# Altium footprint library LPSON_DIODE.PcbLib: 28 footprints (part 2 of 2)
Each footprint in its own frame and in the unit in brackets; x right, y up, seen from the top. Pads: shape width x height; smd on the part's side, far side on the other; paste and mask are expansions set on the pad; w line width, h text height; cw(c..) or ccw(c..) is an arc to the next point about the centre after c.
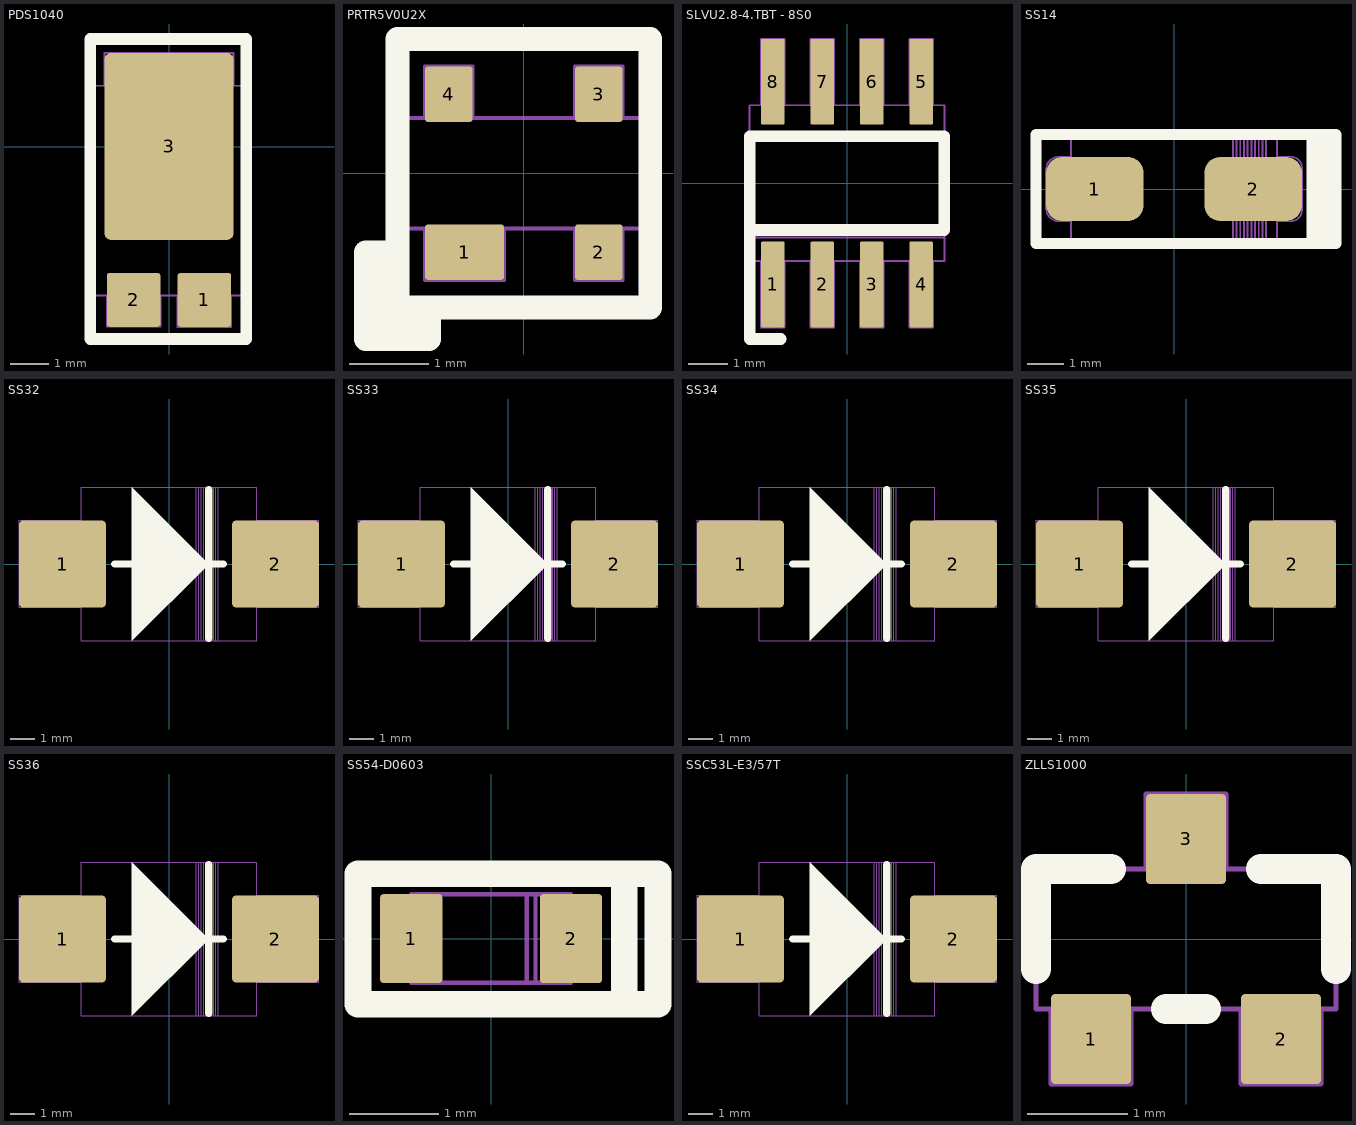
[diagram p1: the footprints below, top view; thin cyan lines are the x and y axes]

## PDS1040 [mm] "DIOD 10A SCHOTTKY BARRIER RECTIFIER"
height 1.15
pads (3):
  rrect10% 1.39x1.4 smd: 1(0.92,-3.982) 2(-0.92,-3.982)
  rrect10% 3.36x4.86 smd mask+0.1: 3(0,0.006)
Top Overlay:
  lines w0.3: -2.043,-5 -2.043,2.8 2.007,2.8 2.007,-5 -2.043,-5
Mechanical 1:
  lines w0.05: -1.68,1.585 -1.68,2.436 1.68,2.436 1.68,1.585 ; -1.615,-3.865 -1.615,-4.682 -0.225,-4.682 -0.225,-3.865 ; 0.225,-3.865 0.225,-4.688 1.615,-4.688 1.615,-3.865 ; -2.025,-3.865 2.025,-3.865 2.025,1.585 -2.025,1.585 -2.025,-3.865
  text "K" at -0.1,-2 h0.5
  text "A2" at -1.3,-4.5 h0.5
  text "A1" at 0.6,-4.5 h0.5
  text "D?" at 0,0 h1

## PRTR5V0U2X [mm] "SOT143B Ultra low capacitance double rail-to-rail ESD protection diode"
height 1.1
pads (4):
  rrect10% 1x0.7 smd mask+0.1: 1(-0.75,-1)
  rrect10% 0.6x0.7 smd mask+0.1: 2(0.95,-1) 3(0.95,1) 4(-0.95,1)
Top Overlay:
  lines w0.3: -1.2,-1.9 -1.8,-1.9 -1.8,-1 -1.6,-1 -2,-1 -2,-2.1 -1.2,-2.1 -1.2,-1.7 ; -1.6,-1.7 -1.6,1.7 1.6,1.7 1.6,-1.7 -1.6,-1.7
Mechanical 1:
  lines w0.05: -1.5,-0.7 1.5,-0.7 1.5,0.7 -1.5,0.7 -1.5,-0.7 ; -1.25,-1.35 -1.25,-0.7 -0.25,-0.7 -0.25,-1.35 -1.25,-1.35 ; -1.25,0.7 -1.25,1.35 -0.65,1.35 -0.65,0.7 -1.25,0.7 ; 0.65,-1.35 1.25,-1.35 1.25,-0.7 0.65,-0.7 0.65,-1.35 ; 0.65,0.7 1.25,0.7 1.25,1.35 0.65,1.35 0.65,0.7
  text "GND" at -1.5,-0.7 h0.5
  text "IO1" at 0.36,-0.66 h0.5
  text "IO2" at 0.25,0.15 h0.5
  text "VCC" at -1.45,0.14 h0.5

## SLVU2.8-4.TBT - 8S0 [mm] "TVS DIODE 2.8V 15V 8SO"
height 1.75
pads (8):
  rrect10% 0.6x2.2 smd mask+0.1: 1(-1.905,-2.6) 2(-0.635,-2.6) 3(0.635,-2.6) 4(1.905,-2.6) 5(1.905,2.6) 6(0.635,2.6) 7(-0.635,2.6) 8(-1.905,2.6)
Top Overlay:
  lines w0.3: -1.7,-4 -2.5,-4 -2.5,-1.2 ; -2.5,-1.2 -2.5,1.2 2.5,1.2 2.5,-1.2 -2.5,-1.2
Mechanical 2:
  lines w0.05: -2.5,-1.4 2.5,-1.4 ; -2.205,-2 -2.205,-3.7 -1.605,-3.7 -1.605,-2 ; -2.205,2 -2.205,3.7 -1.605,3.7 -1.605,2 ; -0.935,-2 -0.935,-3.7 -0.335,-3.7 -0.335,-2 ; -0.935,2 -0.935,3.7 -0.335,3.7 -0.335,2 ; 0.335,-2 0.335,-3.7 0.935,-3.7 0.935,-2 ; 0.335,2 0.335,3.7 0.935,3.7 0.935,2 ; 1.605,-2 1.605,-3.7 2.205,-3.7 2.205,-2 ; 1.605,2 1.605,3.7 2.205,3.7 2.205,2 ; -2.5,-2 2.5,-2 ; -2.5,-2 2.5,-2 ; -2.5,-2 -2.5,2 ; -2.5,-2 -2.5,2 ; -2.5,2 2.5,2 ; -2.5,2 2.5,2 ; 2.5,-2 2.5,2 ; 2.5,-2 2.5,2
  text "5" at 1.8,0.8 h0.5
  text "4" at 1.8,-1.2 h0.5
  text "8" at -2,0.8 h0.5
  text "1" at -2,-1.2 h0.5
3D body "SW3dPS-SO8-HCPL.STEP": height 3.23, standoff -0.5, extent -2.6,-3.003 2.4,3.003

## SS14 [mm] "Diode SMD"
height 2.7
pads (2):
  rrect50% 2.65x1.75 smd: 1(-2.15,0) 2(2.15,0)
Top Overlay:
  lines w0.3: 3.75,-1.475 3.75,1.475 ; 3.9,-1.475 3.9,1.475 ; 4.004,-1.2 4.004,1.2 ; 4.2,-1.475 4.2,1.475 ; -3.75,-1.475 -3.75,1.475 4.4,1.475 4.4,-1.475 -3.75,-1.475
Mechanical 1:
  lines w0.05: -2.8,-0.875 -3.125,-0.875 cw(c-3.125,-0.525) -3.475,-0.525 -3.475,0.525 cw(c-3.125,0.525) -3.125,0.875 -2.8,0.875 ; 1.6,-1.475 1.6,1.475 ; 1.7,-1.475 1.7,1.475 ; 1.8,-1.475 1.8,1.475 ; 1.9,-1.475 1.9,1.475 ; 2,-1.475 2,1.475 ; 2.1,-1.475 2.1,1.475 ; 2.2,-1.475 2.2,1.475 ; 2.3,-1.475 2.3,1.475 ; 2.4,-1.475 2.4,1.475 ; 2.5,-1.475 2.5,1.475 ; 2.8,-0.875 3.175,-0.875 ccw(c3.175,-0.575) 3.475,-0.575 3.475,0.575 ccw(c3.175,0.575) 3.175,0.875 2.8,0.875 ; -2.8,-1.475 2.8,-1.475 2.8,1.475 -2.8,1.475 -2.8,-1.475
3D body "User Library-DO-214AA(SMB).step": height 2.6, standoff -0.05, extent -2.794,-1.975 2.794,1.975

## SS32 [mm] "DIODE SMD DO-214AB"
height 2.62
pads (2):
  rrect10% 3.52x3.52 smd mask+0.1: 1(-4.305,0) 2(4.305,0)
Top Overlay:
  region: -1.5,3.1 -1.5,-3.1 1.6,0
  lines w0.3: -2.2,0 2.2,0 ; 1.6,-3 1.6,3
Mechanical 2:
  lines w0.05: -3.555,-1.74 -6.065,-1.74 -6.065,1.76 -3.555,1.76 ; 1.1,-3.1 1.1,3.1 ; 1.2,-3.1 1.2,3.1 ; 1.3,-3.1 1.3,3.1 ; 1.4,-3.1 1.4,3.1 ; 1.5,-3.1 1.5,3.1 ; 1.6,-3.1 1.6,3.1 ; 1.7,-3.1 1.7,3.1 ; 1.8,-3.1 1.8,3.1 ; 1.9,-3.1 1.9,3.1 ; 2,-3.1 2,3.1 ; 3.555,-1.75 6.065,-1.75 6.065,1.76 3.555,1.76 ; -3.555,-3.1 -3.555,3.1 3.555,3.1 3.555,-3.1 -3.555,-3.1
3D body "User Library-DIOM8261X24.step": height 2.4, standoff 0.03, extent -4.065,-3.05 4.065,3.05

## SS33 [mm] "DIODE SMD DO-214AB"
height 2.62
pads (2):
  rrect10% 3.52x3.52 smd mask+0.1: 1(-4.305,0) 2(4.305,0)
Top Overlay:
  region: -1.5,3.1 -1.5,-3.1 1.6,0
  lines w0.3: -2.2,0 2.2,0 ; 1.6,-3 1.6,3
Mechanical 2:
  lines w0.05: -3.555,-1.74 -6.065,-1.74 -6.065,1.76 -3.555,1.76 ; 1.1,-3.1 1.1,3.1 ; 1.2,-3.1 1.2,3.1 ; 1.3,-3.1 1.3,3.1 ; 1.4,-3.1 1.4,3.1 ; 1.5,-3.1 1.5,3.1 ; 1.6,-3.1 1.6,3.1 ; 1.7,-3.1 1.7,3.1 ; 1.8,-3.1 1.8,3.1 ; 1.9,-3.1 1.9,3.1 ; 2,-3.1 2,3.1 ; 3.555,-1.75 6.065,-1.75 6.065,1.76 3.555,1.76 ; -3.555,-3.1 -3.555,3.1 3.555,3.1 3.555,-3.1 -3.555,-3.1
3D body "User Library-DIOM8261X24.step": height 2.4, standoff 0.03, extent -4.065,-3.05 4.065,3.05

## SS34 [mm] "DIODE SMD DO-214AB"
height 2.62
pads (2):
  rrect10% 3.52x3.52 smd mask+0.1: 1(-4.305,0) 2(4.305,0)
Top Overlay:
  region: -1.5,3.1 -1.5,-3.1 1.6,0
  lines w0.3: -2.2,0 2.2,0 ; 1.6,-3 1.6,3
Mechanical 2:
  lines w0.05: -3.555,-1.74 -6.065,-1.74 -6.065,1.76 -3.555,1.76 ; 1.1,-3.1 1.1,3.1 ; 1.2,-3.1 1.2,3.1 ; 1.3,-3.1 1.3,3.1 ; 1.4,-3.1 1.4,3.1 ; 1.5,-3.1 1.5,3.1 ; 1.6,-3.1 1.6,3.1 ; 1.7,-3.1 1.7,3.1 ; 1.8,-3.1 1.8,3.1 ; 1.9,-3.1 1.9,3.1 ; 2,-3.1 2,3.1 ; 3.555,-1.75 6.065,-1.75 6.065,1.76 3.555,1.76 ; -3.555,-3.1 -3.555,3.1 3.555,3.1 3.555,-3.1 -3.555,-3.1
3D body "User Library-DIOM8261X24.step": height 2.4, standoff 0.03, extent -4.065,-3.05 4.065,3.05

## SS35 [mm] "DIODE SMD DO-214AB"
height 2.62
pads (2):
  rrect10% 3.52x3.52 smd mask+0.1: 1(-4.305,0) 2(4.305,0)
Top Overlay:
  region: -1.5,3.1 -1.5,-3.1 1.6,0
  lines w0.3: -2.2,0 2.2,0 ; 1.6,-3 1.6,3
Mechanical 2:
  lines w0.05: -3.555,-1.74 -6.065,-1.74 -6.065,1.76 -3.555,1.76 ; 1.1,-3.1 1.1,3.1 ; 1.2,-3.1 1.2,3.1 ; 1.3,-3.1 1.3,3.1 ; 1.4,-3.1 1.4,3.1 ; 1.5,-3.1 1.5,3.1 ; 1.6,-3.1 1.6,3.1 ; 1.7,-3.1 1.7,3.1 ; 1.8,-3.1 1.8,3.1 ; 1.9,-3.1 1.9,3.1 ; 2,-3.1 2,3.1 ; 3.555,-1.75 6.065,-1.75 6.065,1.76 3.555,1.76 ; -3.555,-3.1 -3.555,3.1 3.555,3.1 3.555,-3.1 -3.555,-3.1
3D body "User Library-DIOM8261X24.step": height 2.4, standoff 0.03, extent -4.065,-3.05 4.065,3.05

## SS36 [mm] "DIODE SMD DO-214AB"
height 2.62
pads (2):
  rrect10% 3.52x3.52 smd mask+0.1: 1(-4.305,0) 2(4.305,0)
Top Overlay:
  region: -1.5,3.1 -1.5,-3.1 1.6,0
  lines w0.3: -2.2,0 2.2,0 ; 1.6,-3 1.6,3
Mechanical 2:
  lines w0.05: -3.555,-1.74 -6.065,-1.74 -6.065,1.76 -3.555,1.76 ; 1.1,-3.1 1.1,3.1 ; 1.2,-3.1 1.2,3.1 ; 1.3,-3.1 1.3,3.1 ; 1.4,-3.1 1.4,3.1 ; 1.5,-3.1 1.5,3.1 ; 1.6,-3.1 1.6,3.1 ; 1.7,-3.1 1.7,3.1 ; 1.8,-3.1 1.8,3.1 ; 1.9,-3.1 1.9,3.1 ; 2,-3.1 2,3.1 ; 3.555,-1.75 6.065,-1.75 6.065,1.76 3.555,1.76 ; -3.555,-3.1 3.555,-3.1 3.555,3.1 -3.555,3.1 -3.555,-3.1
3D body "User Library-DIOM8261X24.step": height 2.4, standoff 0.03, extent -4.065,-3.05 4.065,3.05

## SS54-D0603 [mm] "DIODE SCHOTTKY 30V 200MA 0603"
height 0.85
pads (2):
  rrect10% 0.7x1 smd mask+0.05: 1(-0.9,0) 2(0.9,0)
Top Overlay:
  lines w0.3: 1.5,-0.74 -1.5,-0.74 -1.5,0.73 1.5,0.73 ; 1.5,-0.74 1.5,0.73 ; 1.5,-0.74 1.88,-0.74 1.88,0.73 1.5,0.73
Mechanical 1:
  lines w0.05: 0.4,-0.5 0.4,0.5 ; 0.5,-0.5 0.5,0.5 ; 0.6,-0.5 0.6,0.5 ; -0.9,-0.5 -0.9,0.5 0.9,0.5 0.9,-0.5 -0.9,-0.5
3D body "User Library-D0603.step": height 0.56, standoff 0, extent -0.85,-0.4 0.85,0.4

## SSC53L-E3/57T [mm] "DIODE SCHOTTKY 30V 5A DO214AB"
height 2.62
pads (2):
  rrect10% 3.52x3.52 smd mask+0.1: 1(-4.305,0) 2(4.305,0)
Top Overlay:
  region: -1.5,3.1 -1.5,-3.1 1.6,0
  lines w0.3: -2.2,0 2.2,0 ; 1.6,-3 1.6,3
Mechanical 2:
  lines w0.05: -3.555,-1.74 -6.065,-1.74 -6.065,1.76 -3.555,1.76 ; 1.1,-3.1 1.1,3.1 ; 1.2,-3.1 1.2,3.1 ; 1.3,-3.1 1.3,3.1 ; 1.4,-3.1 1.4,3.1 ; 1.5,-3.1 1.5,3.1 ; 1.6,-3.1 1.6,3.1 ; 1.7,-3.1 1.7,3.1 ; 1.8,-3.1 1.8,3.1 ; 1.9,-3.1 1.9,3.1 ; 2,-3.1 2,3.1 ; 3.555,-1.75 6.065,-1.75 6.065,1.76 3.555,1.76 ; -3.555,-3.1 3.555,-3.1 3.555,3.1 -3.555,3.1 -3.555,-3.1
3D body "User Library-DIOM8261X24.step": height 2.4, standoff 0.03, extent -4.065,-3.05 4.065,3.05

## ZLLS1000 [mm] "40V HIGH CURRENT LOW LEAKAGE SCHOTTKY DIODE"
height 1.2
pads (3):
  rrect10% 0.8x0.9 smd mask+0.1: 1(-0.95,-1) 2(0.95,-1) 3(0,1)
Top Overlay:
  lines w0.3: -1.5,-0.3 -1.5,0.7 -0.75,0.7 ; -0.2,-0.7 0.2,-0.7 ; 0.75,0.7 1.5,0.7 1.5,-0.3
Mechanical 1:
  lines w0.05: -1.5,-0.7 -1.5,0.7 1.5,0.7 1.5,-0.7 -1.5,-0.7 ; -1.35,-1.45 -0.55,-1.45 -0.55,-0.7 -1.35,-0.7 -1.35,-1.45 ; -0.4,0.7 0.4,0.7 0.4,1.45 -0.4,1.45 -0.4,0.7 ; 0.55,-1.45 1.35,-1.45 1.35,-0.7 0.55,-0.7 0.55,-1.45
  text "D?" at 0,0 h0.6
  text "NC" at 0.65,-1.25 h0.4
  text "A" at -1.1,-1.3 h0.4
  text "K" at -0.1,0.9 h0.4